# Altium schematic symbol library BGM220PC22HNA2R.SchLib: 1 symbol
Pins are listed as number, name and electrical type; pins without a type are passive.

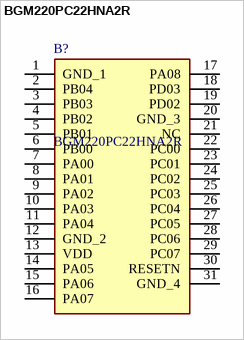
[diagram p0: symbol BGM220PC22HNA2R]

## BGM220PC22HNA2R
designator B?
Bluetooth Modules (802.15.1) Wireless bluetooth PCB module, Secure Boot w/Root of Trust and Secure Loader(RTSL), 76.8MHz, 8dB, A; Manufacturer_Name: Silicon Labs; Geometry.Height: 2.4mm; Mouser Part Number: 634-BGM220PC22HNA2R; Mouser Price/Stock: https://www.mouser.co.uk/ProductDetail/Silicon-Labs/BGM220PC22HNA2R?qs=7MVldsJ5Uax5%252BDPfZhtOHw%3D%3D; Manufacturer_Part_Number: BGM220PC22HNA2R; Datasheet Link: https://www.arrow.com/en/products/bgm220pc22hna2r/silicon-labs
footprint BGM220PC22HNA2R
pins: 1 GND_1, 2 PB04, 3 PB03, 4 PB02, 5 PB01, 6 PB00, 7 PA00, 8 PA01, 9 PA02, 10 PA03, 11 PA04, 12 GND_2, 13 VDD, 14 PA05, 15 PA06, 16 PA07, 17 PA08, 18 PD03, 19 PD02, 20 GND_3, 21 NC, 22 PC00, 23 PC01, 24 PC02, 25 PC03, 26 PC04, 27 PC05, 28 PC06, 29 PC07, 30 RESETN, 31 GND_4